# Altium footprint library IGBT.PcbLib: 1 footprints
Each footprint in its own frame and in the unit in brackets; x right, y up, seen from the top. Pads: shape width x height; smd on the part's side, far side on the other; paste and mask are expansions set on the pad; w line width, h text height; cw(c..) or ccw(c..) is an arc to the next point about the centre after c.
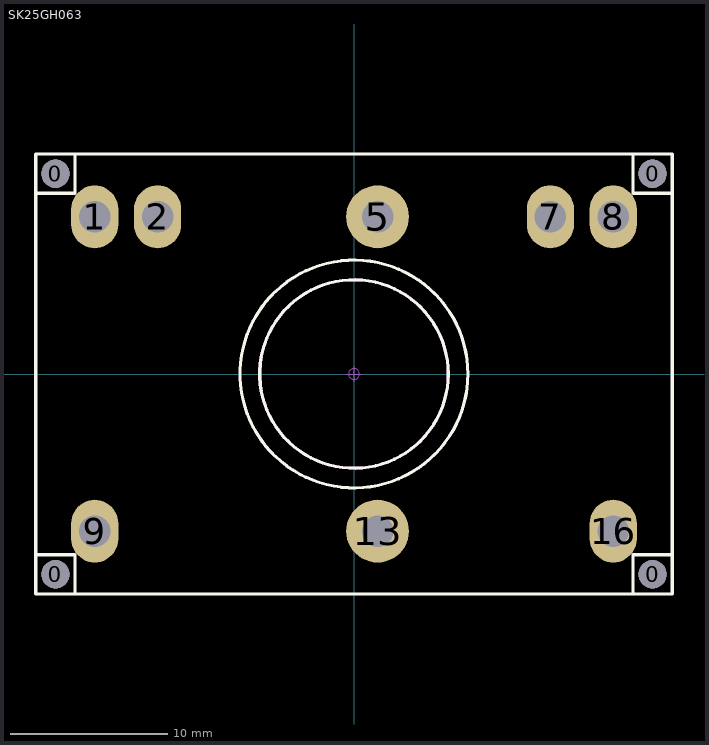
[diagram p0: the footprint, top view; thin cyan lines are the x and y axes]

## SK25GH063 [mm]
pads (12):
  round 1.8 hole 1.8: 0(-19,-12.75) 0(-19,12.75) 0(19,-12.75) 0(19,12.75)
  oval 3x4 hole 2: 1(-16.5,10) 2(-12.5,10) 7(12.5,10) 8(16.5,10) 9(-16.5,-10) 16(16.5,-10)
  round 4 hole 2: 5(1.5,10) 13(1.5,-10)
Top Overlay:
  circle w0.2: c0,0 r7.25
  circle w0.2: c0,0 r6
  lines w0.2: -20.25,-11.5 -17.75,-11.5 -17.75,-14 ; -20.25,11.5 -17.75,11.5 -17.75,14 ; 17.75,-14 17.75,-11.5 20.25,-11.5 ; 17.75,14 17.75,11.5 20.25,11.5 ; -20.25,-14 -20.25,14 20.25,14 20.25,-14 -20.25,-14
Mechanical 1:
  circle w0.2: c0,0 r6
Mechanical 15:
  circle w0.05: c0,0 r0.35
  lines w0.05: -0.5,0 0.5,0 ; 0,-0.5 0,0.5
3D body "SEMIKRON_Semitop_2_STEP（改）.stp": height 3.3, standoff -12.2, extent -20.25,-14 20.25,14